# Altium schematic symbol library TPS71533.SchLib: 1 symbol
Pins are listed as number, name and electrical type; pins without a type are passive.

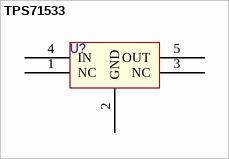
[diagram p0: symbol TPS71533]

## TPS71533
designator U?
pins: 1 NC, 2 GND, 3 NC, 4 IN, 5 OUT